# Altium schematic symbol library NBIoT.SchLib: 23 symbols
Pins are listed as number, name and electrical type; pins without a type are passive.

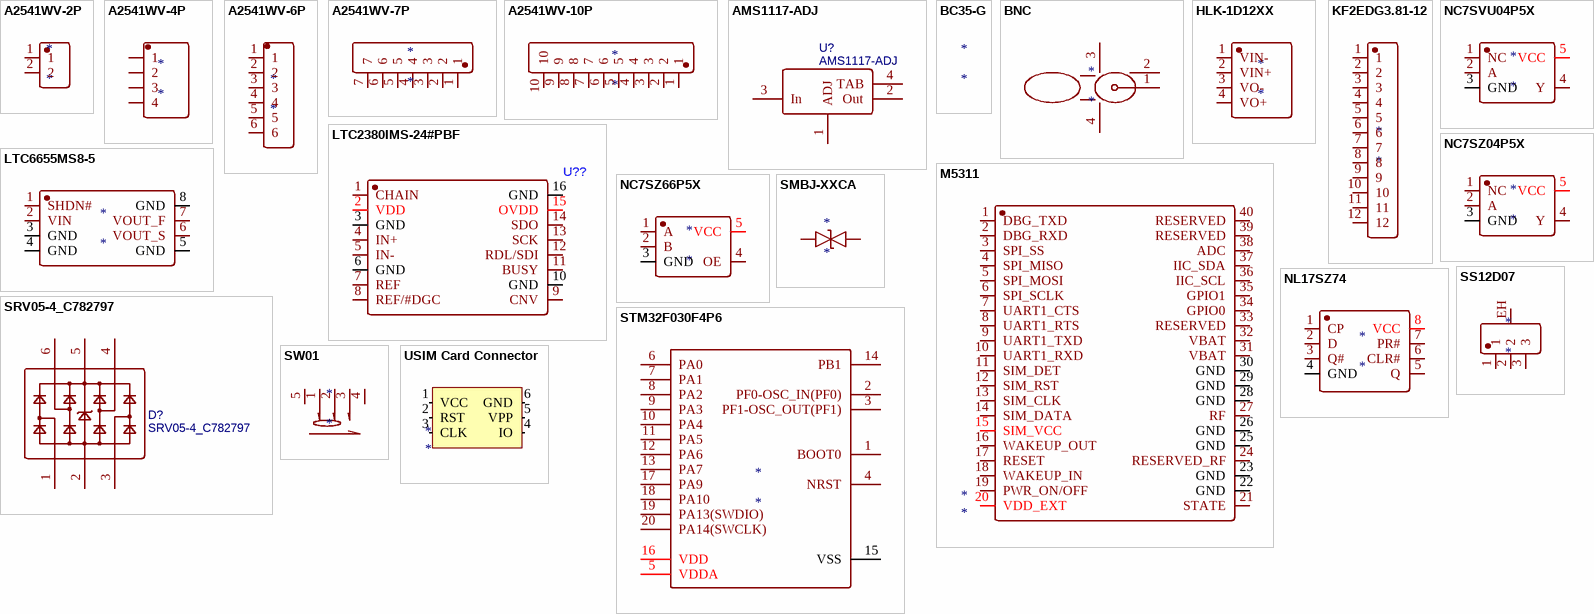
[diagram p0: symbols A2541WV-2P to USIM Card Connector]

## A2541WV-2P
designator *
footprint HDR-TH_P2.54-H-M_A2541WV-2P
pins: 1, 2

## A2541WV-4P
designator *
footprint HDR-TH_4P-P2.54-V
pins: 1, 2, 3, 4

## A2541WV-6P
designator *
footprint HDR-TH_6P-P2.54-V
pins: 1, 2, 3, 4, 5, 6

## A2541WV-7P
designator *
footprint HDR-TH_7P-P2.54-V
pins: 1, 2, 3, 4, 5, 6, 7

## A2541WV-10P
designator *
footprint HDR-TH_10P-P2.54-V
pins: 1, 2, 3, 4, 5, 6, 7, 8, 9, 10

## AMS1117-ADJ
designator U?
BOM_Manufacturer: AMS; sourceId: 0btnFXRxP; Contributor: GerryChen; SMT Type: Extend; BOM_Supplier: LCSC; BOM_Manufacturer Part: AMS1117-ADJ; image: //image.lceda.cn/szlcsc/C6188.jpg; BOM_Supplier Part: C6188; BOM_JLCPCB SMD: Yes; spicePre: U; spiceSymbolName: AMS1117-ADJ
footprint SOT-223_L6.7-W3.5-P2.30-BR
pins: 1 ADJ, 2 Out, 3 In, 4 TAB

## BC35-G
designator *

## BNC
designator *
footprint BNC-TH_DOSIN-801-0072
pins: 1, 2, 3, 4

## HLK-1D12XX
designator *
footprint PWRM-TH_HLK-1DXXXX
pins: 1 VIN-, 2 VIN+, 3 VO-, 4 VO+

## KF2EDG3.81-12
designator *
footprint CONN-TH_12P-P3.81_KF2EDGV-3.81-12P
pins: 1, 2, 3, 4, 5, 6, 7, 8, 9, 10, 11, 12

## LTC2380IMS-24#PBF
designator U??
footprint MSOP-16_L4.0-W3.0-P0.50-LS4.9-BL
pins: 1 CHAIN, 2 VDD, 3 GND, 4 IN+, 5 IN-, 6 GND, 7 REF, 8 REF/#DGC, 9 CNV, 10 GND, 11 BUSY, 12 RDL/SDI, 13 SCK, 14 SDO, 15 OVDD, 16 GND

## LTC6655MS8-5
designator *
footprint MSOP-8_L3.0-W3.0-P0.65-LS4.9-BL
pins: 1 SHDN#, 2 VIN, 3 GND, 4 GND, 5 GND, 6 VOUT_S, 7 VOUT_F, 8 GND

## M5311
designator *
footprint WIRELM-SMD_M5311
pins: 1 DBG_TXD, 2 DBG_RXD, 3 SPI_SS, 4 SPI_MISO, 5 SPI_MOSI, 6 SPI_SCLK, 7 UART1_CTS, 8 UART1_RTS, 9 UART1_TXD, 10 UART1_RXD, 11 SIM_DET, 12 SIM_RST, 13 SIM_CLK, 14 SIM_DATA, 15 SIM_VCC, 16 WAKEUP_OUT, 17 RESET, 18 WAKEUP_IN, 19 PWR_ON/OFF, 20 VDD_EXT, 21 STATE, 22 GND, 23 GND, 24 RESERVED_RF, 25 GND, 26 GND, 27 RF, 28 GND, 29 GND, 30 GND, 31 VBAT, 32 VBAT, 33 RESERVED, 34 GPIO0, 35 GPIO1, 36 IIC_SCL, 37 IIC_SDA, 38 ADC, 39 RESERVED, 40 RESERVED

## NC7SVU04P5X
designator *
footprint SC-70-5_L2.1-W1.3-P0.65-LS2.1-BL
pins: 1 NC, 2 A, 3 GND, 4 Y, 5 VCC

## NC7SZ04P5X
designator *
footprint SC-70-5_L2.1-W1.3-P0.65-LS2.1-BR
pins: 1 NC, 2 A, 3 GND, 4 Y, 5 VCC

## NC7SZ66P5X
designator *
footprint SC-70-5_L2.1-W1.3-P0.65-LS2.1-BL
pins: 1 A, 2 B, 3 GND, 4 OE, 5 VCC

## NL17SZ74
designator *
footprint US-8_L2.4-W2.1-P0.50-LS3.2-BR
pins: 1 CP, 2 D, 3 Q#, 4 GND, 5 Q, 6 CLR#, 7 PR#, 8 VCC

## SMBJ-XXCA
designator *
footprint SMB_L4.6-W3.6-LS5.3-BI
pins: 1, 2

## SRV05-4_C782797
designator D?
BOM_Manufacturer: SEMBO; Contributor: LCSC; BOM_Supplier: LCSC; BOM_Supplier Part: C782797; BOM_Manufacturer Part: SRV05-4; spicePre: D; spiceSymbolName: SRV05-4_C782797
footprint SOT-23-6_L2.9-W1.6-P0.95-LS2.8-BR
pins: 1, 2, 3, 4, 5, 6

## SS12D07
designator *
footprint SW-TH_SS-12D07-X-X
pins: 1, 2, 3, EH

## STM32F030F4P6
designator *
footprint TSSOP-20_L6.5-W4.4-P0.65-LS6.4-BL
pins: 1 BOOT0, 2 PF0-OSC_IN(PF0), 3 PF1-OSC_OUT(PF1), 4 NRST, 5 VDDA, 6 PA0, 7 PA1, 8 PA2, 9 PA3, 10 PA4, 11 PA5, 12 PA6, 13 PA7, 14 PB1, 15 VSS, 16 VDD, 17 PA9, 18 PA10, 19 PA13(SWDIO), 20 PA14(SWCLK)

## SW01
designator *
footprint SW-TH_SSSU011700
pins: 1, 2, 3, 4, 5

## USIM Card Connector
designator *
footprint SIM-SMD_SMO-1512
pins: 1 VCC (io), 2 RST (io), 3 CLK (io), 4 IO (io), 5 VPP (io), 6 GND (io)